# Altium footprint library CONN_DIN.PcbLib: 18 footprints (part 2 of 2)
Each footprint in its own frame and in the unit in brackets; x right, y up, seen from the top. Pads: shape width x height; smd on the part's side, far side on the other; paste and mask are expansions set on the pad; w line width, h text height; cw(c..) or ccw(c..) is an arc to the next point about the centre after c.
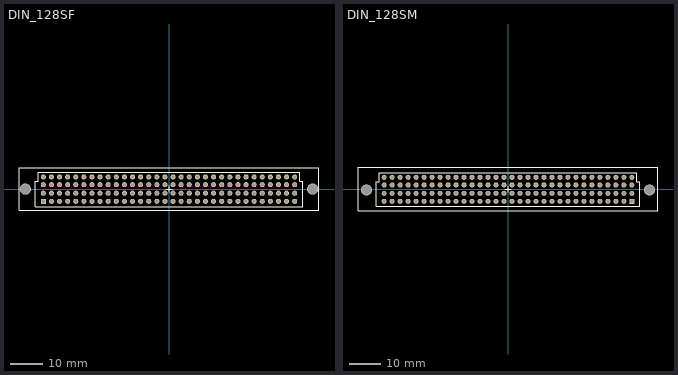
[diagram p1: the footprints below, top view; thin cyan lines are the x and y axes]

## DIN_128SF [mm]
height 6.86
pads (130):
  rect 1.6x1.6 hole 1: A1(-39.37,-3.81)
  round 1.6 hole 1: A2(-36.83,-3.81) A3(-34.29,-3.81) A4(-31.75,-3.81) A5(-29.21,-3.81) A6(-26.67,-3.81) A7(-24.13,-3.81) A8(-21.59,-3.81) A9(-19.05,-3.81) A10(-16.51,-3.81) A11(-13.97,-3.81) A12(-11.43,-3.81) A13(-8.89,-3.81) A14(-6.35,-3.81) A15(-3.81,-3.81) A16(-1.27,-3.81) A17(1.27,-3.81) A18(3.81,-3.81) A19(6.35,-3.81) A20(8.89,-3.81) A21(11.43,-3.81) A22(13.97,-3.81) A23(16.51,-3.81) A24(19.05,-3.81) A25(21.59,-3.81) A26(24.13,-3.81) A27(26.67,-3.81) A28(29.21,-3.81) A29(31.75,-3.81) A30(34.29,-3.81) A31(36.83,-3.81) A32(39.37,-3.81) B1(-39.37,-1.27) B2(-36.83,-1.27) B3(-34.29,-1.27) B4(-31.75,-1.27) B5(-29.21,-1.27) B6(-26.67,-1.27) B7(-24.13,-1.27) B8(-21.59,-1.27) B9(-19.05,-1.27) B10(-16.51,-1.27) B11(-13.97,-1.27) B12(-11.43,-1.27) B13(-8.89,-1.27) B14(-6.35,-1.27) B15(-3.81,-1.27) B16(-1.27,-1.27) B17(1.27,-1.27) B18(3.81,-1.27) B19(6.35,-1.27) B20(8.89,-1.27) B21(11.43,-1.27) B22(13.97,-1.27) B23(16.51,-1.27) B24(19.05,-1.27) B25(21.59,-1.27) B26(24.13,-1.27) B27(26.67,-1.27) B28(29.21,-1.27) B29(31.75,-1.27) B30(34.29,-1.27) B31(36.83,-1.27) B32(39.37,-1.27) C1(-39.37,1.397) C2(-36.83,1.397) C3(-34.29,1.397) C4(-31.75,1.397) C5(-29.21,1.397) C6(-26.67,1.397) C7(-24.13,1.397) C8(-21.59,1.397) C9(-19.05,1.397) C10(-16.51,1.397) C11(-13.97,1.397) C12(-11.43,1.397) C13(-8.89,1.397) C14(-6.35,1.397) C15(-3.81,1.397) C16(-1.27,1.397) C17(1.27,1.397) C18(3.81,1.397) C19(6.35,1.397) C20(8.89,1.397) C21(11.43,1.397) C22(13.97,1.397) C23(16.51,1.397) C24(19.05,1.397) C25(21.59,1.397) C26(24.13,1.397) C27(26.67,1.397) C28(29.21,1.397) C29(31.75,1.397) C30(34.29,1.397) C31(36.83,1.397) C32(39.37,1.397) D1(-39.37,3.81) D2(-36.83,3.81) D3(-34.29,3.81) D4(-31.75,3.81) D5(-29.21,3.81) D6(-26.67,3.81) D7(-24.13,3.81) D8(-21.59,3.81) D9(-19.05,3.81) D10(-16.51,3.81) D11(-13.97,3.81) D12(-11.43,3.81) D13(-8.89,3.81) D14(-6.35,3.81) D15(-3.81,3.81) D16(-1.27,3.81) D17(1.27,3.81) D18(3.81,3.81) D19(6.35,3.81) D20(8.89,3.81) D21(11.43,3.81) D22(13.97,3.81) D23(16.51,3.81) D24(19.05,3.81) D25(21.59,3.81) D26(24.13,3.81) D27(26.67,3.81) D28(29.21,3.81) D29(31.75,3.81) D30(34.29,3.81) D31(36.83,3.81) D32(39.37,3.81)
  round 3.5 / inner round 3.5 / far side round 5 hole 3: ""(-45,0) ""(45,0)
Top Overlay:
  lines w0.2: -1,0 1,0 ; 0,-1 0,1
  lines w0.254: -46.99,-6.604 46.99,-6.604 46.99,6.7 -46.99,6.7 -46.99,-6.604 ; -41.91,-5.461 41.91,-5.461 41.91,2.413 41.021,2.413 41.021,5.334 -41.021,5.334 -41.021,2.413 -41.91,2.413 -41.91,-5.461
3D body "PCN10-128S-2.54DSA.stp": height 11.2, standoff -4.2, extent -46.8,-6.52 46.8,6.52

## DIN_128SM [mm]
height 6.86
pads (130):
  rect 1.6x1.6 hole 1: A1(39.37,-3.81)
  round 1.6 hole 1: A2(36.83,-3.81) A3(34.29,-3.81) A4(31.75,-3.81) A5(29.21,-3.81) A6(26.67,-3.81) A7(24.13,-3.81) A8(21.59,-3.81) A9(19.05,-3.81) A10(16.51,-3.81) A11(13.97,-3.81) A12(11.43,-3.81) A13(8.89,-3.81) A14(6.35,-3.81) A15(3.81,-3.81) A16(1.27,-3.81) A17(-1.27,-3.81) A18(-3.81,-3.81) A19(-6.35,-3.81) A20(-8.89,-3.81) A21(-11.43,-3.81) A22(-13.97,-3.81) A23(-16.51,-3.81) A24(-19.05,-3.81) A25(-21.59,-3.81) A26(-24.13,-3.81) A27(-26.67,-3.81) A28(-29.21,-3.81) A29(-31.75,-3.81) A30(-34.29,-3.81) A31(-36.83,-3.81) A32(-39.37,-3.81) B1(39.37,-1.27) B2(36.83,-1.27) B3(34.29,-1.27) B4(31.75,-1.27) B5(29.21,-1.27) B6(26.67,-1.27) B7(24.13,-1.27) B8(21.59,-1.27) B9(19.05,-1.27) B10(16.51,-1.27) B11(13.97,-1.27) B12(11.43,-1.27) B13(8.89,-1.27) B14(6.35,-1.27) B15(3.81,-1.27) B16(1.27,-1.27) B17(-1.27,-1.27) B18(-3.81,-1.27) B19(-6.35,-1.27) B20(-8.89,-1.27) B21(-11.43,-1.27) B22(-13.97,-1.27) B23(-16.51,-1.27) B24(-19.05,-1.27) B25(-21.59,-1.27) B26(-24.13,-1.27) B27(-26.67,-1.27) B28(-29.21,-1.27) B29(-31.75,-1.27) B30(-34.29,-1.27) B31(-36.83,-1.27) B32(-39.37,-1.27) C1(39.37,1.397) C2(36.83,1.397) C3(34.29,1.397) C4(31.75,1.397) C5(29.21,1.397) C6(26.67,1.397) C7(24.13,1.397) C8(21.59,1.397) C9(19.05,1.397) C10(16.51,1.397) C11(13.97,1.397) C12(11.43,1.397) C13(8.89,1.397) C14(6.35,1.397) C15(3.81,1.397) C16(1.27,1.397) C17(-1.27,1.397) C18(-3.81,1.397) C19(-6.35,1.397) C20(-8.89,1.397) C21(-11.43,1.397) C22(-13.97,1.397) C23(-16.51,1.397) C24(-19.05,1.397) C25(-21.59,1.397) C26(-24.13,1.397) C27(-26.67,1.397) C28(-29.21,1.397) C29(-31.75,1.397) C30(-34.29,1.397) C31(-36.83,1.397) C32(-39.37,1.397) D1(39.37,3.81) D2(36.83,3.81) D3(34.29,3.81) D4(31.75,3.81) D5(29.21,3.81) D6(26.67,3.81) D7(24.13,3.81) D8(21.59,3.81) D9(19.05,3.81) D10(16.51,3.81) D11(13.97,3.81) D12(11.43,3.81) D13(8.89,3.81) D14(6.35,3.81) D15(3.81,3.81) D16(1.27,3.81) D17(-1.27,3.81) D18(-3.81,3.81) D19(-6.35,3.81) D20(-8.89,3.81) D21(-11.43,3.81) D22(-13.97,3.81) D23(-16.51,3.81) D24(-19.05,3.81) D25(-21.59,3.81) D26(-24.13,3.81) D27(-26.67,3.81) D28(-29.21,3.81) D29(-31.75,3.81) D30(-34.29,3.81) D31(-36.83,3.81) D32(-39.37,3.81)
  round 3.5 / inner round 3.5 / far side round 5 hole 3: ""(-45,-0.2) ""(45,-0.2)
Top Overlay:
  lines w0.2: -1,0 1,0 ; 0,-1 0,1
  lines w0.254: -47.7,-6.8 -47.7,7 47.7,7 47.7,-6.8 -47.7,-6.8 ; -41.91,-5.461 -41.91,2.413 -41.021,2.413 -41.021,5.334 41.021,5.334 41.021,2.413 41.91,2.413 41.91,-5.461 -41.91,-5.461
3D body "PCN10-128P-2.54DSA.stp": height 11.6, standoff -3.2, extent -47.5,-6.7 47.5,6.84